# Altium integrated library WL-SBCW_rev15a.intlib: 2 symbols
Pins are listed as number, name and electrical type; pins without a type are passive.

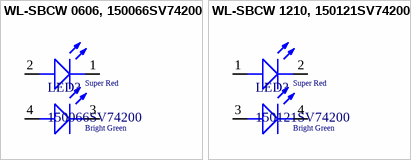
[diagram p0: symbols WL-SBCW 0606, 150066SV74200 to WL-SBCW 1210, 150121SV74200]

## WL-SBCW 0606, 150066SV74200
designator LED?, comment 150066SV74200
SMD Bi-Color Chip LED waterclear, WL-SBCW , Super Red & Bright Green; Manufacturer: Würth Elektronik eiSos GmbH; PartNo: 150066SV74200; ComponentLink1Description: Manufacturer; ComponentLink1URL: http://www.we-online.de; Created by: Christin Otto; Created Date: Oct 2014; ComponentLink2Description: Datasheet; ComponentLink2URL: http://katalog.we-online.com/led/datasheet/150066SV74200.pdf; Color: Super Red & Bright Green
footprint WL-SBCW 0606 (SMD-LED, Body 1.6x1.6mm)
pins: 1 K, 2 A, 3 K, 4 A
1 alternate drawing of the same symbol
text: Super Red; Bright Green

## WL-SBCW 1210, 150121SV74200
designator LED?, comment 150121SV74200
SMD Bi-Color Chip LED waterclear, WL-SBCW , Super Red & Bright Green; Manufacturer: Würth Elektronik eiSos GmbH; PartNo: 150121SV74200; ComponentLink1Description: Manufacturer; ComponentLink1URL: http://www.we-online.de; Created by: Christin Otto; Created Date: Oct 2014; ComponentLink2Description: Datasheet; ComponentLink2URL: http://katalog.we-online.com/led/datasheet/150121SV74200.pdf; Color: Super Red & Bright Green
footprint WL-SBCW 1210 (SMD-LED, Body 3.2x2.7mm)
pins: 1 A, 2 K, 3 A, 4 K
1 alternate drawing of the same symbol
text: Super Red; Bright Green